# Altium footprint library B3U-1000.PcbLib: 1 footprints
Each footprint in its own frame and in the unit in brackets; x right, y up, seen from the top. Pads: shape width x height; smd on the part's side, far side on the other; paste and mask are expansions set on the pad; w line width, h text height; cw(c..) or ccw(c..) is an arc to the next point about the centre after c.
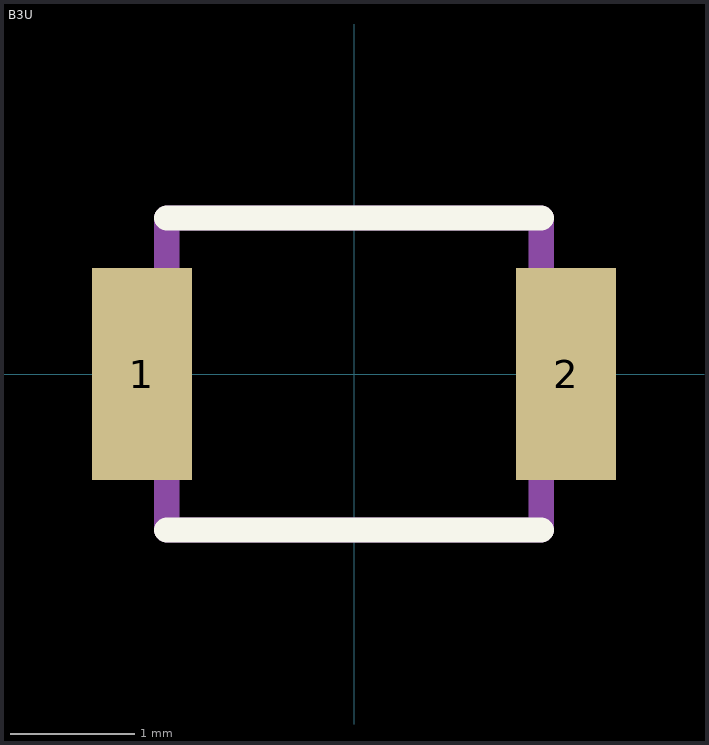
[diagram p0: the footprint, top view; thin cyan lines are the x and y axes]

## B3U [mm]
pads (2):
  rect 0.8x1.7 smd paste-25.4 mask-25.4: 1(-1.7,0) 2(1.7,0)
Top Overlay:
  lines w0.203: -1.5,-1.25 1.5,-1.25 ; -1.5,1.25 1.5,1.25
Top Paste:
  region: 1.3,-0.85 2.1,-0.85 2.1,0.85 1.3,0.85
  region: -2.1,-0.85 -1.3,-0.85 -1.3,0.85 -2.1,0.85
Top Solder:
  region: 1.2,-0.95 2.2,-0.95 2.2,0.95 1.2,0.95
  region: -2.2,-0.95 -1.2,-0.95 -1.2,0.95 -2.2,0.95
Mechanical 1:
  lines w0.203: -1.5,-1.25 -1.5,1.25 1.5,1.25 1.5,-1.25 -1.5,-1.25